# Altium footprint library 39303041.PcbLib: 1 footprints
Each footprint in its own frame and in the unit in brackets; x right, y up, seen from the top. Pads: shape width x height; smd on the part's side, far side on the other; paste and mask are expansions set on the pad; w line width, h text height; cw(c..) or ccw(c..) is an arc to the next point about the centre after c.
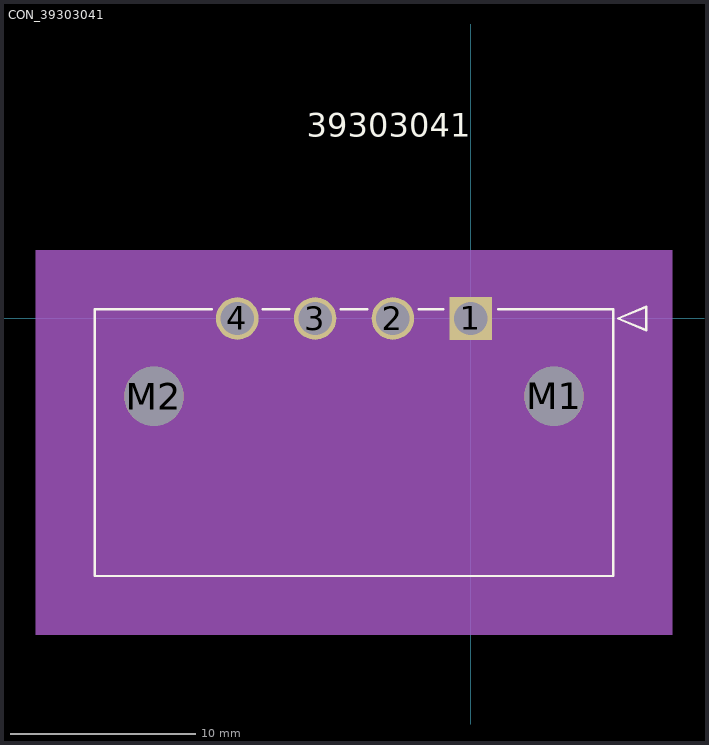
[diagram p0: the footprint, top view; thin cyan lines are the x and y axes]

## CON_39303041 [mm]
pads (6):
  rect 2.3x2.3 hole 1.8 mask+0.076: 1(0,0)
  round 2.3 hole 1.8 mask+0.076: 2(-4.2,0) 3(-8.4,0) 4(-12.6,0)
  round 3.2 hole 3.2 unplated mask+0.076: M1(4.5,-4.2) M2(-17.1,-4.2)
Top Overlay:
  lines w0.127: -13.982,0.5 -20.3,0.5 -20.3,-13.9 7.7,-13.9 7.7,0.5 1.47,0.5 ; -11.218,0.5 -9.782,0.5 ; -7.018,0.5 -5.582,0.5 ; -2.818,0.5 -1.47,0.5 ; 7.954,0 9.478,0.635 9.478,-0.635 7.954,0
  text "39303041" at -8.84,9.81 h1.27
Mechanical 3:
  text "PTH_DRILL_SIZE:_1.8_MM,_TOL:_+0.05/-0.05" at -19,-20.67 h1.27
  text "NPTH_DRILL_SIZE:_3.2_MM,_TOL:_+0.05/-0.05" at -19.317,-23.21 h1.27
Mechanical 5:
  region: -23.475,3.675 10.875,3.675 10.875,-17.075 -23.475,-17.075
Mechanical 10:
  text "PTH_DRILL_SIZE:_1.8_MM,_TOL:_+0.05/-0.05" at -19,-20.67 h1.27
  text "NPTH_DRILL_SIZE:_3.2_MM,_TOL:_+0.05/-0.05" at -19.317,-23.21 h1.27
Mechanical 13:
  lines w0.127: -20.3,-13.9 7.7,-13.9 7.7,0.5 -20.3,0.5 -20.3,-13.9 ; 7.954,0 9.478,0.635 9.478,-0.635 7.954,0
  text "39303041" at -8.84,9.81 h1.27
Mechanical 15:
  region: 8.97,1.77 -21.57,1.77 -21.57,-15.17 8.97,-15.17
  lines w0.127: -21.57,-15.17 -21.57,1.77 8.97,1.77 8.97,-15.17 -21.57,-15.17
3D body: height 0.25, standoff 0, extent 0,0 0.254,0.254